# Altium schematic symbol library CGA4J3X7R1A475K125AB.Schlib: 1 symbol
Pins are listed as number, name and electrical type; pins without a type are passive.

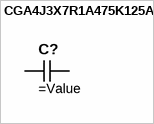
[diagram p0: symbol CGA4J3X7R1A475K125AB]

## CGA4J3X7R1A475K125AB
designator C?
CAP CER 4.7UF 10V X7R 0805
pins: 1, 2 1